# Altium schematic symbol library Bno055.SchLib: 5 symbols
Pins are listed as number, name and electrical type; pins without a type are passive.

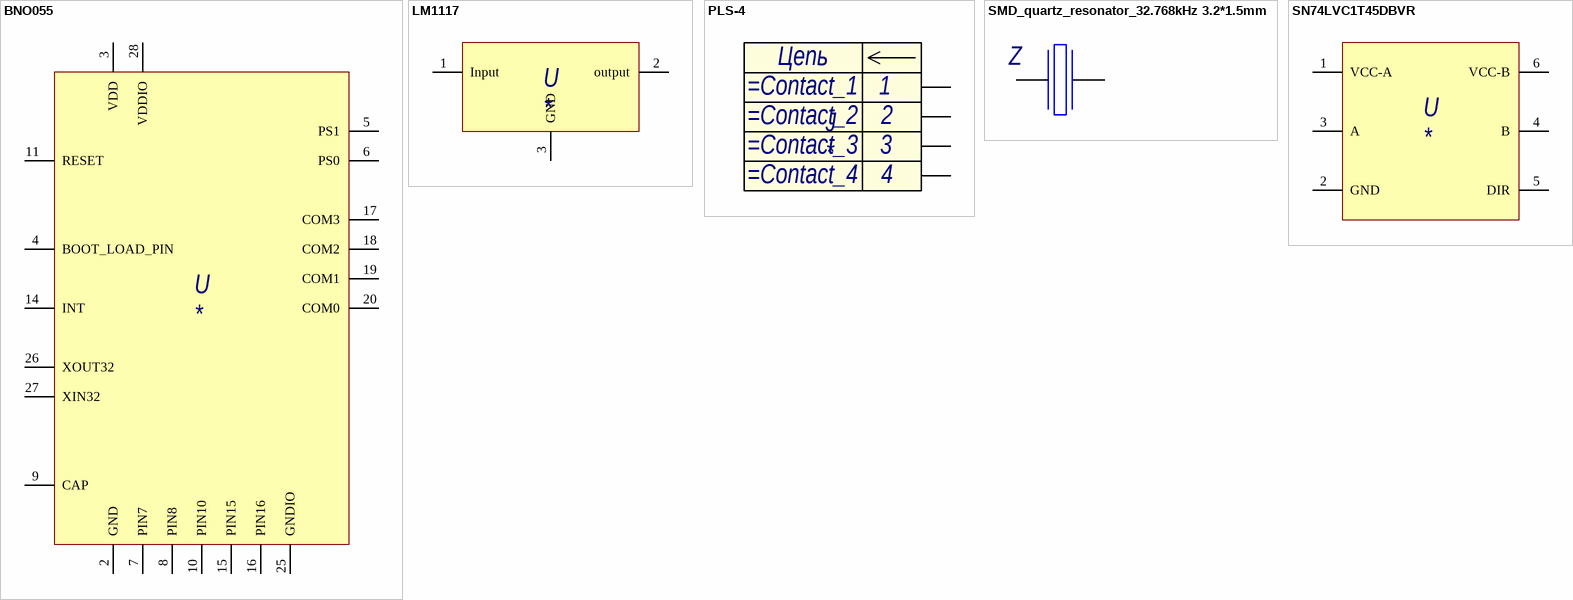
[diagram p0: symbols BNO055 to SN74LVC1T45DBVR]

## BNO055
designator U
9-ти осевой гироскоп, акселлерометр и магнитометр
footprint LGA60C50P10X6_520X380X118 (LGA, 60-Leads, Body 5,20x3,80mmx1,18mm, Pitch 0,50mm)
pins: 2 GND, 3 VDD, 4 BOOT_LOAD_PIN, 5 PS1, 6 PS0, 7 PIN7, 8 PIN8, 9 CAP, 10 PIN10, 11 RESET, 14 INT, 15 PIN15, 16 PIN16, 17 COM3, 18 COM2, 19 COM1, 20 COM0, 25 GNDIO, 26 XOUT32, 27 XIN32, 28 VDDIO

## LM1117
designator U
footprint SOT223_M (SOT223, 4-Leads, Body 6.5x3.5mm, Pitch 2.3mm, Lead Span 7mm, IPC Low Density)
pins: 1 Input, 2 output, 3 GND

## PLS-4
designator J
footprint PLS-4
pins: 1, 2, 3, 4
text: Цепь

## SMD_quartz_resonator_32.768kHz 3.2*1.5mm
designator Z  (value not drawn)
резонатор кварцевый 32.768kHz
footprint SMD_quartz_resonator_3.2*1.5
pins: 1, 2

## SN74LVC1T45DBVR
designator U
1-битный шинный приемопередатчик с двуполярным питанием, тремя состояниями на выходе
footprint SOT23-6
pins: 1 VCC-A, 2 GND, 3 A, 4 B, 5 DIR, 6 VCC-B